# EAGLE library part TOOSMALLTPS562209DDCR (library comms_backup)
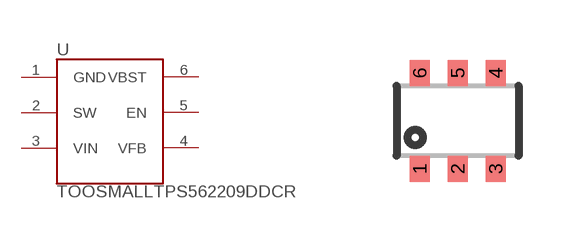
[diagram p0: symbol with the pads of TSOT-23-6; footprint TSOT-23-6]

Designator prefix U

## TOOSMALLTPS562209DDCR""  [TSOT-23-6]
1  GND  in
2  SW  out
3  VIN
4  VFB  in
5  EN  in
6  VBST  in

## Footprint TSOT-23-6 (pad centres in mm)
smd 0.5 x 0.65: 1 -0.95,-1.2; 2 0,-1.2; 3 0.95,-1.2; 4 0.95,1.2; 5 0,1.2; 6 -0.95,1.2